# Altium footprint library Synthiam.PcbLib: 481 footprints (part 19 of 31)
Each footprint in its own frame and in the unit in brackets; x right, y up, seen from the top. Pads: shape width x height; smd on the part's side, far side on the other; paste and mask are expansions set on the pad; w line width, h text height; cw(c..) or ccw(c..) is an arc to the next point about the centre after c.
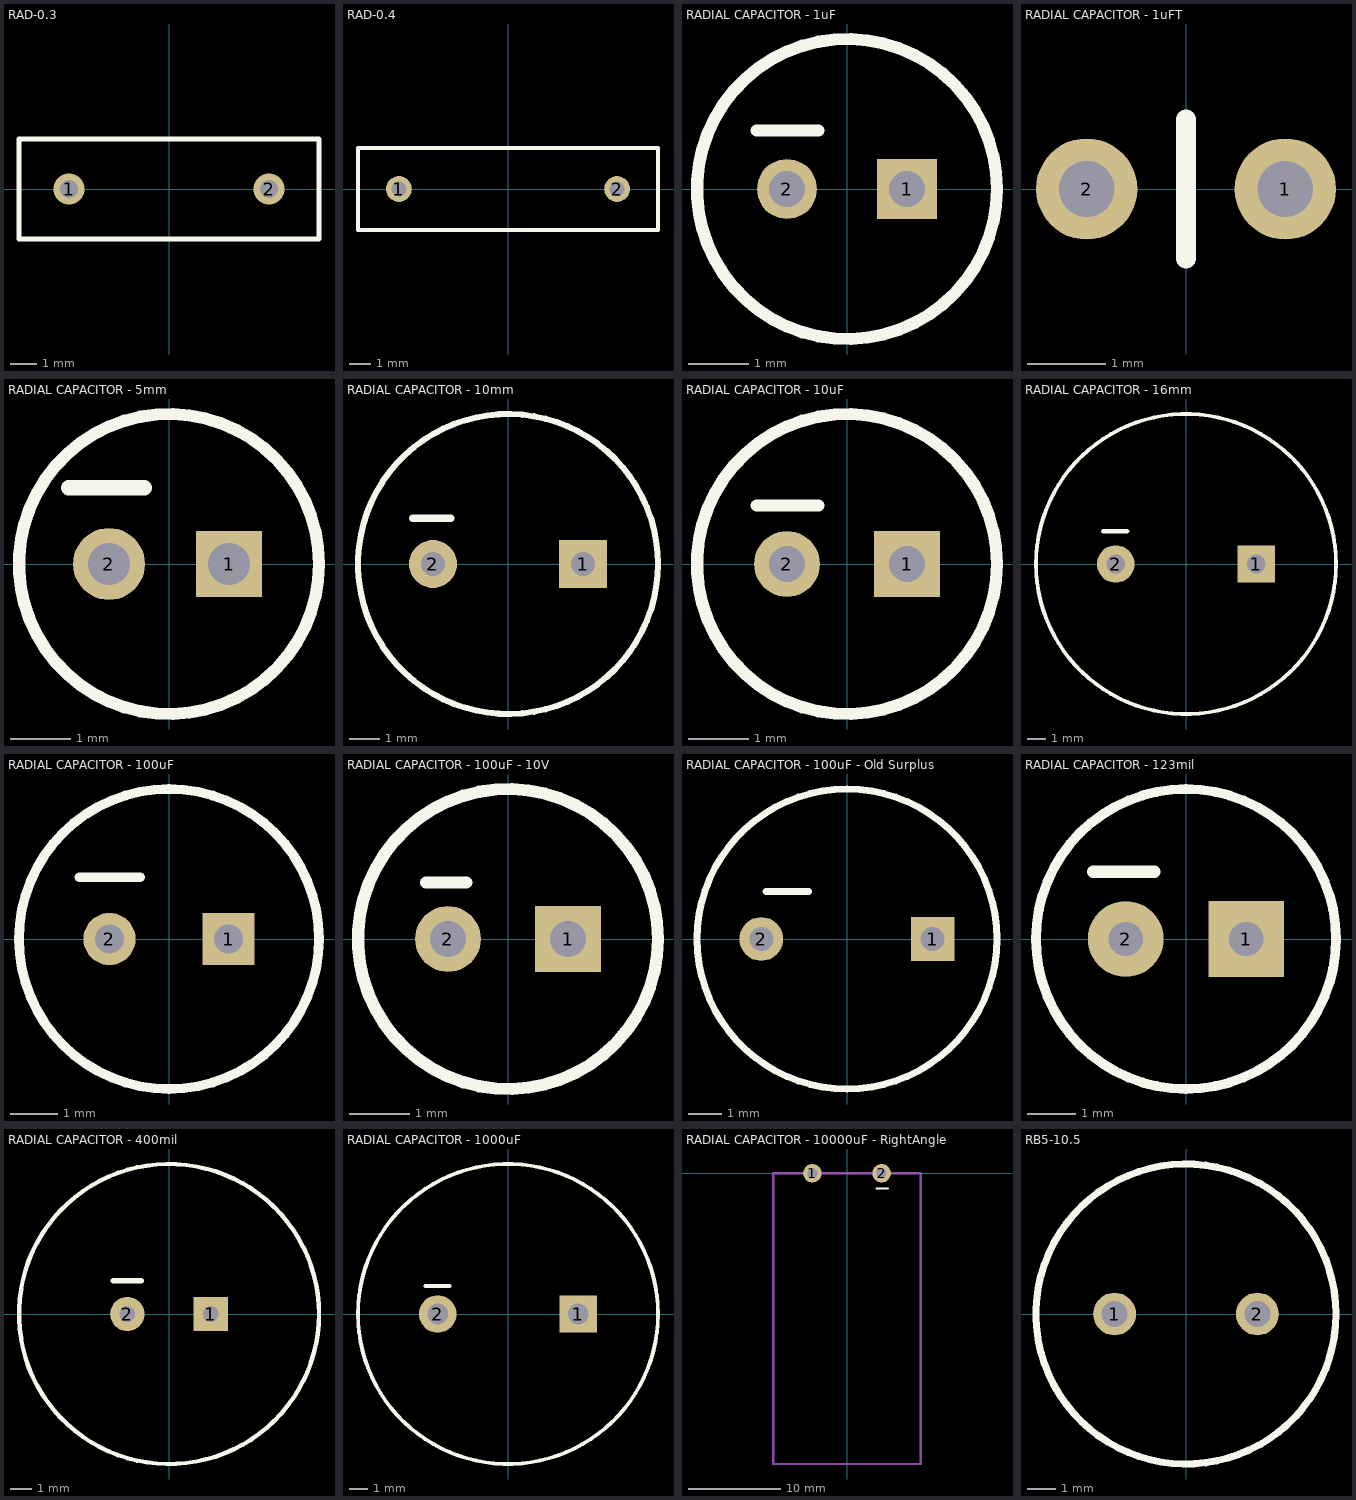
[diagram p18: the footprints below, top view; thin cyan lines are the x and y axes]

## RAD-0.3 [mm] "Radial Cap, Thru-Hole; 2 Leads; 0.3 in Pin Spacing"
height 6
pads (2):
  round 1.2 hole 0.7: 1(-3.81,0) 2(3.81,0)
Top Overlay:
  lines w0.2: -5.715,-1.905 -5.715,1.905 5.715,1.905 5.715,-1.905 -5.715,-1.905

## RAD-0.4 [mm] "Radial Cap, Thru-Hole; 2 Leads; 0.4 in Pin Spacing"
pads (2):
  round 1.2 hole 0.7: 1(-5.08,0) 2(5.08,0)
Top Overlay:
  lines w0.2: -6.985,-1.905 -6.985,1.905 6.985,1.905 6.985,-1.905 -6.985,-1.905

## RADIAL CAPACITOR - 1uF [mm]
pads (2):
  rect 1x1 hole 0.6: 1(1,0)
  round 1 hole 0.6: 2(-1,0)
Top Overlay:
  circle w0.203: c0,0 r2.5
  lines w0.203: -1.505,0.973 -0.477,0.973

## RADIAL CAPACITOR - 1uFT [mil]
pads (2):
  round 51 hole 28: 1(50,0) 2(-50,0)
Top Overlay:
  lines w10: 0,-35 0,35

## RADIAL CAPACITOR - 5mm [mm]
pads (2):
  rect 1.1x1.1 hole 0.7: 1(1,0)
  round 1.2 hole 0.7: 2(-1,0)
Top Overlay:
  circle w0.203: c0,0 r2.5
  lines w0.254: -1.676,1.27 -0.406,1.27

## RADIAL CAPACITOR - 10mm [mm]
pads (2):
  rect 1.6x1.6 hole 0.8: 1(2.5,0)
  round 1.6 hole 0.8: 2(-2.5,0)
Top Overlay:
  circle w0.203: c0,0 r5
  lines w0.254: -3.175,1.524 -1.905,1.524

## RADIAL CAPACITOR - 10uF [mm]
pads (2):
  rect 1.1x1.1 hole 0.6: 1(1,0)
  round 1.1 hole 0.6: 2(-1,0)
Top Overlay:
  circle w0.203: c0,0 r2.5
  lines w0.203: -1.505,0.973 -0.477,0.973

## RADIAL CAPACITOR - 16mm [mm]
pads (2):
  rect 2x2 hole 1: 1(3.75,0)
  round 2 hole 1: 2(-3.75,0)
Top Overlay:
  circle w0.203: c0,0 r8
  lines w0.254: -4.42,1.753 -3.15,1.753

## RADIAL CAPACITOR - 100uF [mm]
pads (2):
  rect 1.1x1.1 hole 0.6: 1(1.25,0)
  round 1.1 hole 0.6 paste+0: 2(-1.25,0)
Top Overlay:
  circle w0.203: c0,0 r3.15
  lines w0.203: -1.88,1.295 -0.61,1.295

## RADIAL CAPACITOR - 100uF - 10V [mm]
pads (2):
  rect 1.1x1.1 hole 0.6: 1(1,0)
  round 1.1 hole 0.6: 2(-1,0)
Top Overlay:
  circle w0.203: c0,0 r2.5
  lines w0.203: -1.366,0.943 -0.696,0.943

## RADIAL CAPACITOR - 100uF - Old Surplus [mm]
pads (2):
  rect 1.3x1.3 hole 0.711: 1(2.54,0)
  round 1.3 hole 0.711: 2(-2.54,0)
Top Overlay:
  circle w0.203: c0,0 r4.445
  lines w0.203: -2.405,1.405 -1.135,1.405

## RADIAL CAPACITOR - 123mil [mil]
pads (2):
  rect 62x62 hole 28: 1(49.21,0)
  round 62 hole 28: 2(-49.21,0)
Top Overlay:
  circle w8: c0,0 r122.5
  lines w10: -75.79,55 -25.79,55

## RADIAL CAPACITOR - 400mil [mil]
pads (2):
  rect 62x62 hole 28: 1(75,0)
  round 62 hole 28: 2(-75,0)
Top Overlay:
  circle w8: c0,0 r270
  lines w10: -100,60 -50,60

## RADIAL CAPACITOR - 1000uF [mm]
pads (2):
  rect 2x2 hole 1.1: 1(3.75,0)
  round 2 hole 1.1: 2(-3.75,0)
Top Overlay:
  circle w0.203: c0,0 r8
  lines w0.203: -4.394,1.499 -3.124,1.499

## RADIAL CAPACITOR - 10000uF - RightAngle [mm]
pads (2):
  round 2 hole 1.1: 1(-3.75,0) 2(3.75,0)
Top Overlay:
  lines w0.203: 3.2,-1.651 4.47,-1.651
Mechanical 1:
  lines w0.254: -8,-31.5 8,-31.5 8,0 -8,0 -8,-31.5

## RB5-10.5 [mm] "Capacitor (Radial); 2 Leads"
pads (2):
  round 1.5 hole 0.9: 1(-2.5,0) 2(2.5,0)
Top Overlay:
  circle w0.25: c0,0 r5.25
Mechanical 1:
  circle w0.02: c0,0 r5.25